# EAGLE library part PRC1602A (library #PaJa_displeje)
LCD - 2x16 + LED (TME - LCM1602ASL) LCD Anzeige TC1602E(L) http://www.lcd-module.de/deu/pdf/doma/dip162-d.pdf
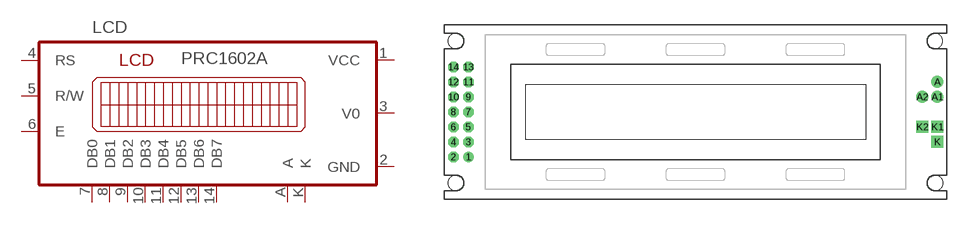
[diagram p4: symbol with the pads of PRC1602A; footprint PRC1602A]

Designator prefix LCD

## PRC1602A  [PRC1602A]
1  VCC  pwr
2  GND  pwr
3  V0  pwr
4  RS  in
5  R/W  in
6  E  in
7  DB0  pas
8  DB1  pas
9  DB2  pas
10  DB3  pas
11  DB4  pas
12  DB5  pas
13  DB6  pas
14  DB7  pas
A  A  pas
K  K  pas

## Footprint PRC1602A (pad centres in mm)
drill 0.9 pad 1.778 round: 1 -38.1,-7.62
drill 0.9 pad 1.778 octagon: 2 -40.64,-7.62; 3 -38.1,-5.08; 4 -40.64,-5.08; 5 -38.1,-2.54; 6 -40.64,-2.54; 7 -38.1,0; 8 -40.64,0; 9 -38.1,2.54; 10 -40.64,2.54; 11 -38.1,5.08; 12 -40.64,5.08; 13 -38.1,7.62; 14 -40.64,7.62
drill 0.9 pad 2 round: A 41.275,5.08; A1 41.275,2.54; A2 38.735,2.54
drill 0.9 pad 2 square: K 41.275,-5.08; K1 41.275,-2.54; K2 38.735,-2.54
hole 2.6 at -40.172,11.976
hole 2.6 at -40.172,-12.026
hole 2.6 at 40.871,-12.026
hole 2.6 at 40.84,11.976